# EAGLE library part P-08- (library con-headers-jp)
HEADER PLUG PINS
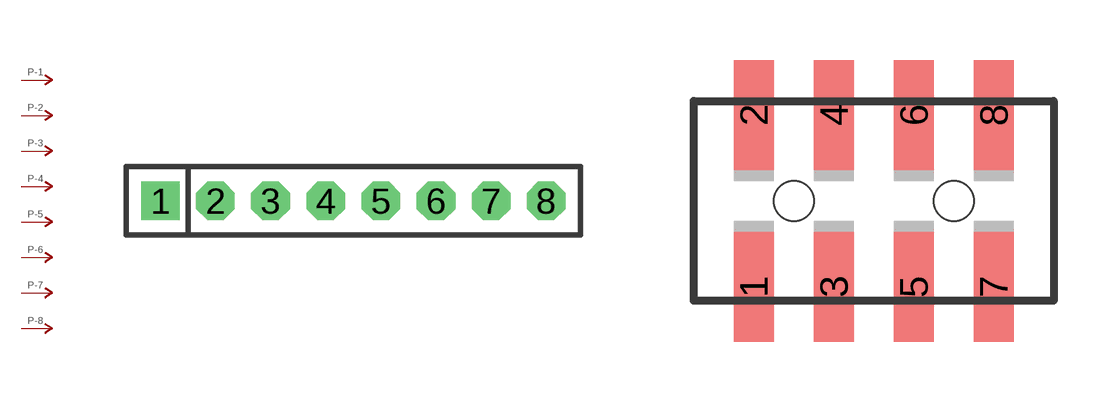
[diagram p11: symbol with the pads of SIP-100-08; footprints SIP-100-08, 87759-08]

Designator prefix P; gates -1=P-N -2=P-N -3=P-N -4=P-N -5=P-N -6=P-N -7=P-N -8=P-N

## P-08-SIP-100  [SIP-100-08]
1  -1:P  pas
2  -2:P  pas
3  -3:P  pas
4  -4:P  pas
5  -5:P  pas
6  -6:P  pas
7  -7:P  pas
8  -8:P  pas

## P-08-87759  [87759-08]
Pads as for SIP-100-08

## P-08-100-2X04  [HDR-100-2X04]
Pads as for SIP-100-08

## P-08-2MM-2X04  [HDR-2MM-2X04]
Pads as for SIP-100-08

## P-08-100-2X04_M  [HDR-100-2X04_M]
Pads as for SIP-100-08

## P-08-2MM-2X04_M  [HDR-2MM-2X04_M]
Pads as for SIP-100-08

## Footprint SIP-100-08 (pad centres in mm)
SIP Header - 0.1"
drill 0.914 pad 1.778 square: 1 -8.89,0
drill 0.914 pad 1.778 octagon: 2 -6.35,0; 3 -3.81,0; 4 -1.27,0; 5 1.27,0; 6 3.81,0; 7 6.35,0; 8 8.89,0

## Footprint 87759-08 (pad centres in mm)
Molex PCB Pin Headers 2.00mm (.079") Pitch Milli-Grid Header, Vertical SMD
smd 1 x 2.75: 1 -3,-2.15; 2 -3,2.15; 3 -1,-2.15; 4 -1,2.15; 5 1,-2.15; 6 1,2.15; 7 3,-2.15; 8 3,2.15
hole 1 at -2,0
hole 1 at 2,0

## Footprint HDR-100-2X04 (pad centres in mm)
PIN HEADER - 0.1"
drill 1.016 square: 1 -3.81,-1.27
drill 1.016 octagon: 2 -3.81,1.27; 3 -1.27,-1.27; 4 -1.27,1.27; 5 1.27,-1.27; 6 1.27,1.27; 7 3.81,-1.27; 8 3.81,1.27

## Footprint HDR-2MM-2X04 (pad centres in mm)
PIN HEADER - 2MM"
drill 0.914 square: 1 -3,-1
drill 0.914 round: 2 -3,1; 3 -1,-1; 4 -1,1; 5 1,-1; 6 1,1; 7 3,-1; 8 3,1

## Footprint HDR-100-2X04_M (pad centres in mm)
PIN HEADER - 0.1" - MIRRORED
drill 1.016 square: 1 -3.81,1.27
drill 1.016 octagon: 2 -3.81,-1.27; 3 -1.27,1.27; 4 -1.27,-1.27; 5 1.27,1.27; 6 1.27,-1.27; 7 3.81,1.27; 8 3.81,-1.27

## Footprint HDR-2MM-2X04_M (pad centres in mm)
PIN HEADER - 2MM - MIRRORED
drill 0.914 square: 1 -3,1
drill 0.914 round: 2 -3,-1; 3 -1,1; 4 -1,-1; 5 1,1; 6 1,-1; 7 3,1; 8 3,-1